# Altium footprint library PCB_PROJECT.PcbLib: 26 footprints (part 2 of 2)
Each footprint in its own frame and in the unit in brackets; x right, y up, seen from the top. Pads: shape width x height; smd on the part's side, far side on the other; paste and mask are expansions set on the pad; w line width, h text height; cw(c..) or ccw(c..) is an arc to the next point about the centre after c.
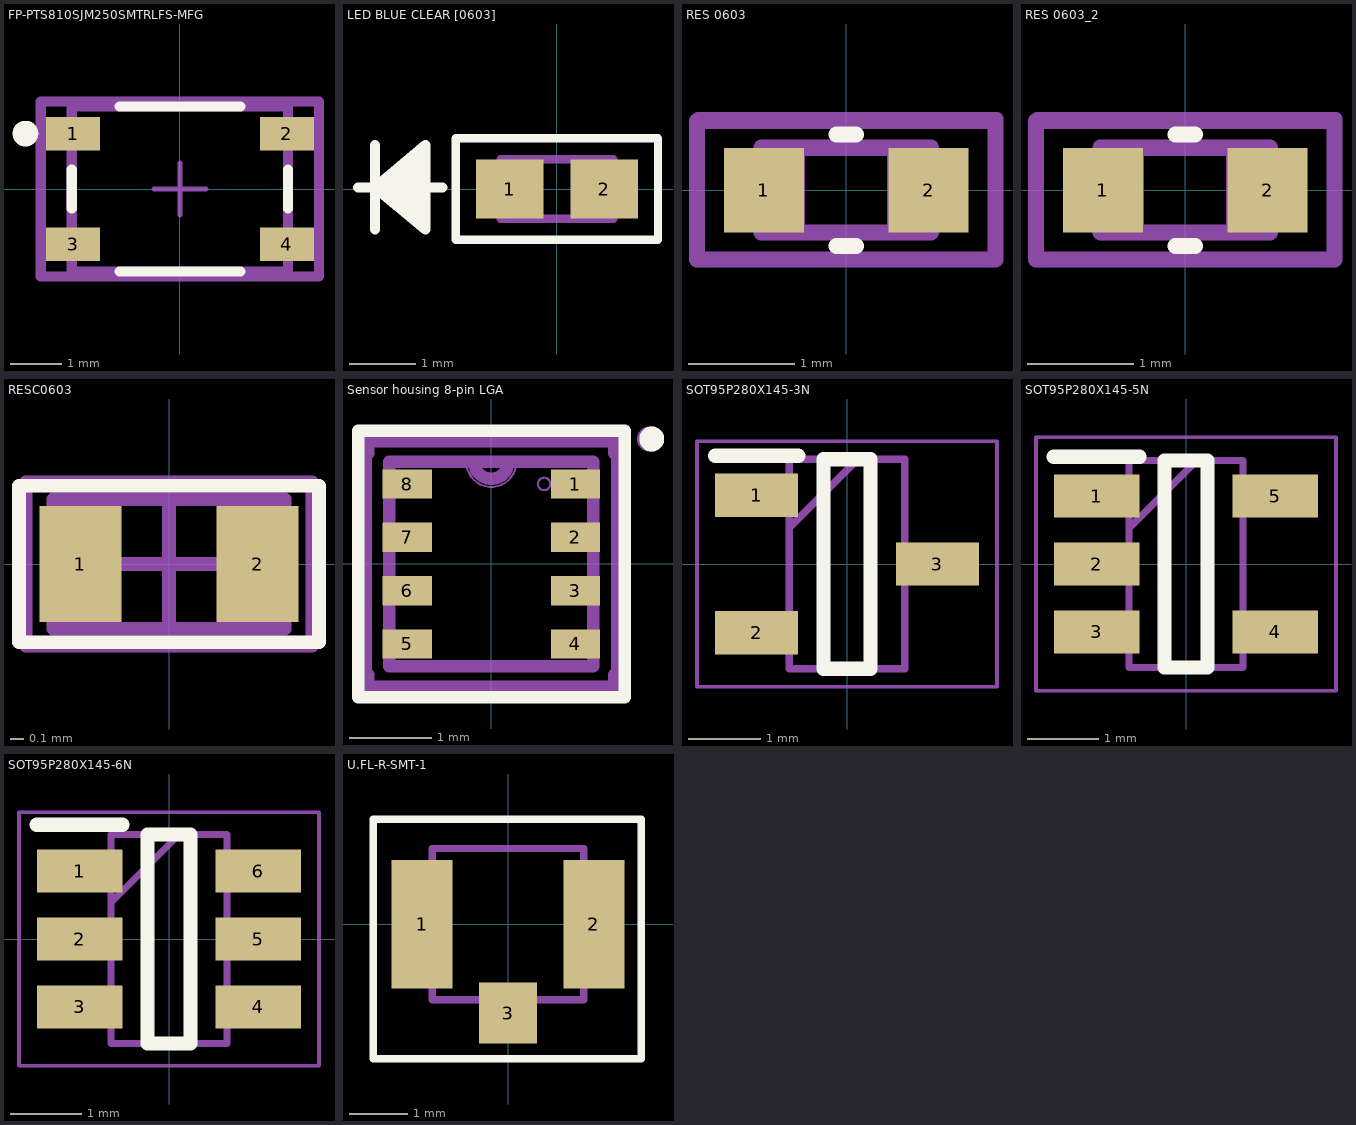
[diagram p1: the footprints below, top view; thin cyan lines are the x and y axes]

## FP-PTS810SJM250SMTRLFS-MFG [mm]
pads (4):
  rect 1.05x0.65 smd paste+0 mask+0: 1(-2.075,1.075) 2(2.075,1.075) 3(-2.075,-1.075) 4(2.075,-1.075)
Top Overlay:
  circle w0.25: c-3,1.075 r0.125
  lines w0.2: -2.1,-0.375 -2.1,0.375 ; -1.175,-1.6 1.175,-1.6 ; -1.175,1.6 1.175,1.6 ; 2.1,-0.375 2.1,0.375
Top Assembly:
  lines w0.2: -2.7,-1.7 -2.7,1.7 2.7,1.7 2.7,-1.7 -2.7,-1.7
  text ".Designator" at 0,0.188 h0.51
Mechanical 13:
  lines w0.2: -2.1,-1.6 -2.1,1.6 2.1,1.6 2.1,-1.6 -2.1,-1.6
Mechanical 15:
  lines w0.2: -2.7,-1.7 -2.7,1.7 2.7,1.7 2.7,-1.7 -2.7,-1.7
Mechanical 16:
  lines w0.1: -0.5,0 0.5,0 ; 0,-0.5 0,0.5
3D body "Switch_C&K_Components_PTS810SJM250SMTRLFS_eec.STEP": height 0.25, standoff 0, extent -2.7,-1.7 2.7,1.7

## LED BLUE CLEAR [0603] [mil]
pads (2):
  rect 40x35 smd: 1(-28,0) 2(28,0)
Top Overlay:
  lines w5: -60,-30 60,-30 60,30 -60,30 -60,-30
  lines w6: -118.04,1 -68.04,1 ; -108.04,-24 -108.04,26 ; -78.04,-19 -108.04,1 ; -78.04,-14 -108.04,1 ; -78.04,-9 -108.04,1 ; -78.04,-4 -108.04,1 ; -78.04,6 -108.04,1 ; -78.04,11 -108.04,1 ; -78.04,16 -108.04,1 ; -78.04,21 -108.04,1 ; -108.04,1 -78.04,26 -78.04,-24 -108.04,1
Mechanical 1:
  lines w1: -118.04,1 -68.04,1 ; -108.04,-24 -108.04,26 ; -78.04,-19 -108.04,1 ; -78.04,-14 -108.04,1 ; -78.04,-9 -108.04,1 ; -78.04,-4 -108.04,1 ; -78.04,6 -108.04,1 ; -78.04,11 -108.04,1 ; -78.04,16 -108.04,1 ; -78.04,21 -108.04,1 ; -108.04,1 -78.04,26 -78.04,-24 -108.04,1
Mechanical 4:
  lines w5: -33.46,-17.72 -33.46,17.72 33.46,17.72 33.46,-17.72 -33.46,-17.72
Mechanical 15:
  lines w4: -60,-30 -60,30 60,30 60,-30 -60,-30
3D body: height 11.81, standoff 0, extent 21.5,-14 33.51,14
3D body: height 11.81, standoff 0, extent -33.5,-14 -21.5,14
3D body: height 11.81, standoff 0, extent -3.5,-5 3.5,5
3D body: height 27.56, standoff 0, extent -21.5,-14 21.5,14

## RES 0603 [mm]
pads (2):
  rect 0.756x0.8 smd: 1(-0.778,0) 2(0.778,0)
Top Overlay:
  lines w0.152: -0.092,-0.527 0.092,-0.527 ; -0.092,0.527 0.092,0.527
Mechanical 1:
  lines w0.025: -0.8,-0.4 -0.8,0.4 ; -0.8,-0.4 0.8,-0.4 ; -0.8,-0.4 -0.4,-0.4 -0.4,0.4 -0.8,0.4 ; -0.8,-0.4 -0.8,0.4 ; -0.8,0.4 0.8,0.4 ; 0.8,-0.4 0.8,0.4 ; 0.8,-0.4 0.8,0.4 ; 0.8,-0.4 0.4,-0.4 0.4,0.4 0.8,0.4
Bottom Value:
  lines w0.127: -1.4,-0.65 1.425,-0.65 1.425,0.675 -1.4,0.675 -1.4,-0.65
Bottom Courtyard:
  lines w0.152: -1.41,-0.654 1.41,-0.654 1.41,0.654 -1.41,0.654 -1.41,-0.654 ; -0.8,-0.4 0.8,-0.4 0.8,0.4 -0.8,0.4 -0.8,-0.4
3D body "RC0603N_PAN.step": height 0.71, standoff 0, extent -0.8,-0.4 0.8,0.4

## RES 0603_2 [mm]
pads (2):
  rect 0.756x0.8 smd: 1(-0.778,0) 2(0.778,0)
Top Overlay:
  lines w0.152: -0.092,-0.527 0.092,-0.527 ; -0.092,0.527 0.092,0.527
Mechanical 1:
  lines w0.025: -0.8,-0.4 -0.8,0.4 ; -0.8,-0.4 -0.4,-0.4 -0.4,0.4 -0.8,0.4 ; -0.8,-0.4 0.8,-0.4 ; -0.8,-0.4 -0.8,0.4 ; -0.8,0.4 0.8,0.4 ; 0.8,-0.4 0.4,-0.4 0.4,0.4 0.8,0.4 ; 0.8,-0.4 0.8,0.4 ; 0.8,-0.4 0.8,0.4
Mechanical 8:
  lines w0.127: -1.4,-0.65 -1.4,0.675 1.425,0.675 1.425,-0.65 -1.4,-0.65
Mechanical 16:
  lines w0.152: -1.41,-0.654 -1.41,0.654 1.41,0.654 1.41,-0.654 -1.41,-0.654 ; -0.8,-0.4 -0.8,0.4 0.8,0.4 0.8,-0.4 -0.8,-0.4
3D body "RC0603N_PAN.step": height 0.71, standoff 0, extent -0.8,-0.4 0.8,0.4

## RESC0603 [mm]
pads (2):
  rect 0.6x0.85 smd: 1(-0.65,0) 2(0.65,0)
Top Overlay:
  lines w0.1: -1.1,-0.575 1.1,-0.575 1.1,0.575 -1.1,0.575 -1.1,-0.575
Mechanical 13:
  lines w0.1: -0.85,-0.475 -0.85,0.475 0.85,0.475 0.85,-0.475 -0.85,-0.475
Mechanical 15:
  lines w0.05: -1.05,-0.6 -1.05,0.6 1.05,0.6 1.05,-0.6 -1.05,-0.6
  lines w0.1: -0.475,0 0.475,0 ; 0,-0.475 0,0.475
Mechanical 29:
  lines w0.1: -1.05,-0.6 -1.05,0.6 1.05,0.6 1.05,-0.6 -1.05,-0.6
  text "'.Designator'" at -1.05,-0.2 h0.5
3D body: height 0.6, standoff 0, extent -0.57,-0.475 0.57,0.475
3D body: height 0.6, standoff 0, extent -0.85,-0.475 -0.57,0.475
3D body: height 0.6, standoff 0, extent 0.57,-0.475 0.85,0.475

## Sensor housing 8-pin LGA [mm]
pads (8):
  rect 0.6x0.356 smd: 1(1.025,0.975) 2(1.025,0.325) 3(1.025,-0.325) 4(1.025,-0.975) 5(-1.025,-0.975) 6(-1.025,-0.325) 7(-1.025,0.325) 8(-1.025,0.975)
Top Overlay:
  circle w0.152: c1.956,1.524 r0.076
  lines w0.152: -1.626,-1.626 -1.626,1.626 1.626,1.626 1.626,-1.626 -1.626,-1.626
Mechanical 1:
  circle w0.025: c0.643,0.976 r0.076
  lines w0.025: -0.305,1.245 ccw(c0,1.245) 0.305,1.245 ; -1.245,-1.245 -1.245,1.245 1.245,1.245 1.245,-1.245 -1.245,-1.245
Mechanical 16:
  circle w0.152: c1.93,1.524 r0.076
  lines w0.152: -0.207,1.245 ccw(c0,1.245) 0.207,1.245 ; -1.533,-1.351 -1.499,-1.351 -1.499,-1.499 1.499,-1.499 1.499,-1.351 1.533,-1.351 1.533,1.351 1.499,1.351 1.499,1.499 -1.499,1.499 -1.499,1.351 -1.533,1.351 -1.533,-1.351 ; -1.245,-1.245 1.245,-1.245 1.245,1.245 -1.245,1.245 -1.245,-1.245
3D body: height 0.94, standoff 0.93, extent -0.099,-1.05 0.1,-0.85
3D body: height 0.93, standoff 0.13, extent -1.175,-1.175 1.2,1.175
3D body: height 0.13, standoff 0, extent -1.475,-1.425 1.475,1.425

## SOT95P280X145-3N [mm]
pads (3):
  rect 1.15x0.6 smd: 1(-1.25,0.95) 2(-1.25,-0.95) 3(1.25,0)
Top Overlay:
  lines w0.2: -1.825,1.5 -0.675,1.5 ; -0.325,-1.45 0.325,-1.45 0.325,1.45 -0.325,1.45 -0.325,-1.45
Mechanical 13:
  lines w0.1: -0.8,0.5 0.15,1.45 ; -0.8,-1.45 0.8,-1.45 0.8,1.45 -0.8,1.45 -0.8,-1.45
Mechanical 15:
  lines w0.05: -2.075,-1.7 2.075,-1.7 2.075,1.7 -2.075,1.7 -2.075,-1.7
3D body "SM353LT.stp": height 1.45, standoff 0, extent -1.4,-1.45 1.4,1.45

## SOT95P280X145-5N [mm]
pads (5):
  rect 1.2x0.6 smd: 1(-1.25,0.95) 2(-1.25,0) 3(-1.25,-0.95) 4(1.25,-0.95) 5(1.25,0.95)
Top Overlay:
  lines w0.2: -1.85,1.5 -0.65,1.5 ; -0.3,-1.45 0.3,-1.45 0.3,1.45 -0.3,1.45 -0.3,-1.45
Mechanical 13:
  lines w0.1: -0.8,0.5 0.15,1.45 ; -0.8,-1.45 0.8,-1.45 0.8,1.45 -0.8,1.45 -0.8,-1.45
Mechanical 15:
  lines w0.05: -2.1,-1.775 2.1,-1.775 2.1,1.775 -2.1,1.775 -2.1,-1.775
3D body "TLV75533PDBVR.stp": height 1.45, standoff 0, extent -1.4,-1.45 1.4,1.45

## SOT95P280X145-6N [mm]
pads (6):
  rect 1.2x0.6 smd: 1(-1.25,0.95) 2(-1.25,0) 3(-1.25,-0.95) 4(1.25,-0.95) 5(1.25,0) 6(1.25,0.95)
Top Overlay:
  lines w0.2: -1.85,1.6 -0.65,1.6 ; -0.3,-1.462 0.3,-1.462 0.3,1.462 -0.3,1.462 -0.3,-1.462
Mechanical 13:
  lines w0.1: -0.812,0.512 0.138,1.462 ; -0.812,-1.462 0.812,-1.462 0.812,1.462 -0.812,1.462 -0.812,-1.462
Mechanical 15:
  lines w0.05: -2.1,-1.775 2.1,-1.775 2.1,1.775 -2.1,1.775 -2.1,-1.775
3D body "USBLC6-2SC6.stp": height 1.45, standoff 0, extent -1.4,-1.462 1.4,1.462

## U.FL-R-SMT-1 [mm]
pads (3):
  rect 1.05x2.2 smd: 1(-1.475,0) 2(1.475,0)
  rect 1x1.05 smd: 3(0,-1.525)
Top Overlay:
  lines w0.127: -2.311,-2.311 -2.311,1.803 -2.083,1.803 2.286,1.803 2.286,-2.311 -2.311,-2.311
Top Courtyard:
  lines w0.127: -1.3,-1.3 1.3,-1.3 1.3,1.3 -1.3,1.3 -1.3,-1.3
Top Component Center:
  lines w0.127: -1.3,-1.3 1.3,-1.3 1.3,1.3 -1.3,1.3 -1.3,-1.3
3D body "U.FL-R-SMT-01---3DModel-STEP-56544.STEP": height 1.25, standoff 0, extent -1.473,-1.549 1.527,1.551